# Altium footprint library CANBus.PcbLib: 1 footprints
Each footprint in its own frame and in the unit in brackets; x right, y up, seen from the top. Pads: shape width x height; smd on the part's side, far side on the other; paste and mask are expansions set on the pad; w line width, h text height; cw(c..) or ccw(c..) is an arc to the next point about the centre after c.
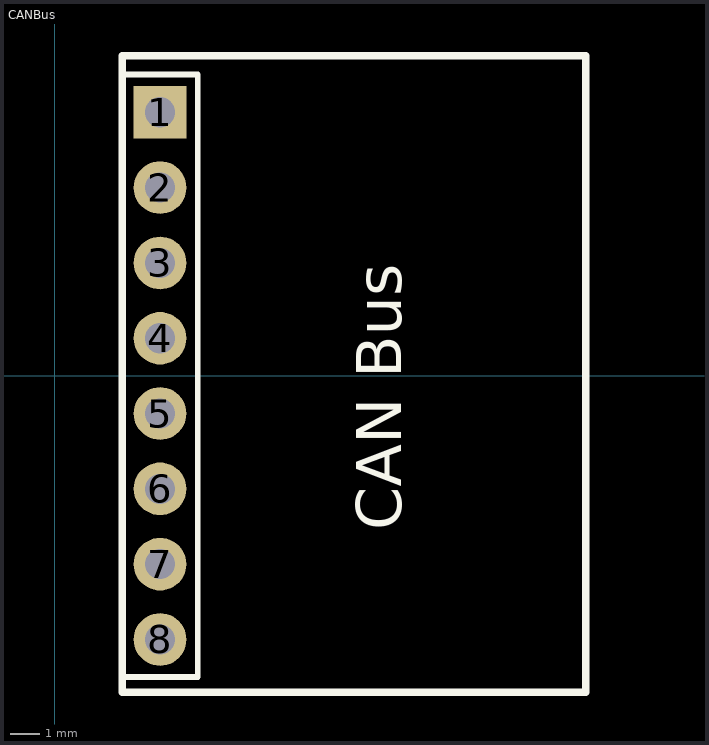
[diagram p0: the footprint, top view; thin cyan lines are the x and y axes]

## CANBus [mil]
pads (8):
  rect 70x70 hole 40: 1(140,350)
  round 70 hole 40: 2(140,250) 3(140,150) 4(140,50) 5(140,-50) 6(140,-150) 7(140,-250) 8(140,-350)
Top Overlay:
  lines w7.87: 90,-400 90,400 190,400 190,-400 90,-400
  lines w10: 90,-420 705,-420 705,425 90,425 90,-420
  text "CAN Bus" at 460,-205 h60
3D body: height 150, standoff 100, extent 75,-415 700,425